# EAGLE library part IC-HK (library ic)
Laser Switching Driver (155 MHz) https://www.ichaus.de/product/iC-HK%20iC-HKB
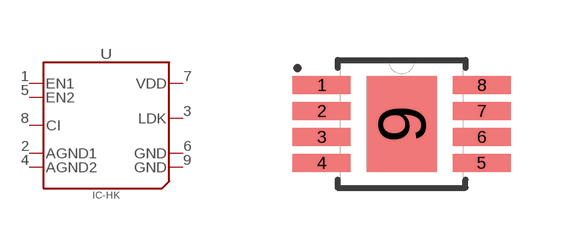
[diagram p0: symbol with the pads of MSOP8-TP; footprint MSOP8-TP]

Designator prefix U

## IC-HK (EAGLEUP: MSOP8;;; I_MAX: 300mA; MFR: iC-Haus; MPN: iC-HK; VDD: 5), IC-HKB (EAGLEUP: MSOP8;;; I_MAX: 300mA; MFR: iC-Haus; MPN: iC-HKB; VDD: 5)  [MSOP8-TP]
1  EN1  in
2  AGND1  pas
3  LDK  pas
4  AGND2  pas
5  EN2  in
6  GND  pwr
7  VDD  pwr
8  CI  in
9  GND  pwr

## Footprint MSOP8-TP (pad centres in mm)
smd 1.45 x 0.45: 1 -2,0.975; 2 -2,0.325; 3 -2,-0.325; 4 -2,-0.975; 5 2,-0.975; 6 2,-0.325; 7 2,0.325; 8 2,0.975
smd 1.75 x 2.4: 9 0,0